# Altium footprint library MOLEX_532610671.PcbLib: 1 footprints
Each footprint in its own frame and in the unit in brackets; x right, y up, seen from the top. Pads: shape width x height; smd on the part's side, far side on the other; paste and mask are expansions set on the pad; w line width, h text height; cw(c..) or ccw(c..) is an arc to the next point about the centre after c.
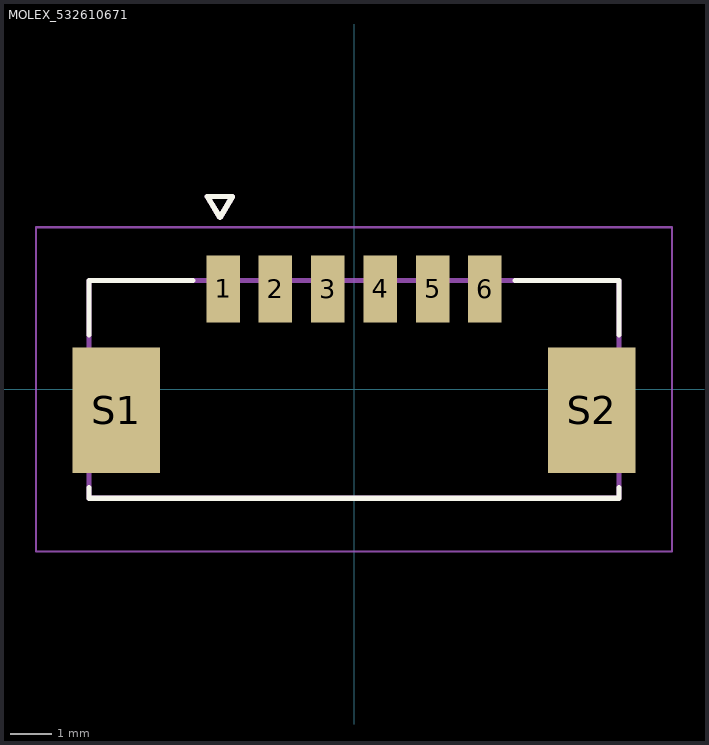
[diagram p0: the footprint, top view; thin cyan lines are the x and y axes]

## MOLEX_532610671 [mm]
pads (8):
  rect 0.8x1.6 smd mask+0: 1(-3.125,2.4) 2(-1.875,2.4) 3(-0.625,2.4) 4(0.625,2.4) 5(1.875,2.4) 6(3.125,2.4)
  rect 2.1x3 smd mask+0: S1(-5.675,-0.5) S2(5.675,-0.5)
Top Overlay:
  lines w0.127: -6.325,-2.35 -6.325,-2.6 6.325,-2.6 6.325,-2.35 ; -6.325,1.3 -6.325,2.6 -3.845,2.6 ; 3.845,2.6 6.325,2.6 6.325,1.3 ; -3.5,4.605 -2.9,4.605 -3.2,4.105 -3.5,4.605
Top Solder:
  region: -2.649,1.524 -3.601,1.524 -3.601,3.276 -2.649,3.276
  region: 6.801,-2.076 4.549,-2.076 4.549,1.076 6.801,1.076
  region: -4.549,-2.076 -6.801,-2.076 -6.801,1.076 -4.549,1.076
  region: -1.399,1.524 -2.351,1.524 -2.351,3.276 -1.399,3.276
  region: -0.149,1.524 -1.101,1.524 -1.101,3.276 -0.149,3.276
  region: 1.101,1.524 0.149,1.524 0.149,3.276 1.101,3.276
  region: 2.351,1.524 1.399,1.524 1.399,3.276 2.351,3.276
  region: 3.601,1.524 2.649,1.524 2.649,3.276 3.601,3.276
Mechanical 13:
  lines w0.127: -6.325,-2.6 6.325,-2.6 6.325,2.6 -6.325,2.6 -6.325,-2.6 ; -3.5,4.605 -2.9,4.605 -3.2,4.105 -3.5,4.605
Mechanical 15:
  lines w0.05: -7.595,-3.87 7.595,-3.87 7.595,3.87 -7.595,3.87 -7.595,-3.87
3D body "step_temp.STEP": height 3.38, standoff -0.02, extent -6.325,-2.626 6.325,2.574